# EAGLE library part ICL3221ECAZ (library Intersil_By_element14_Batch_1)
RS-232 Transmitters/Receivers
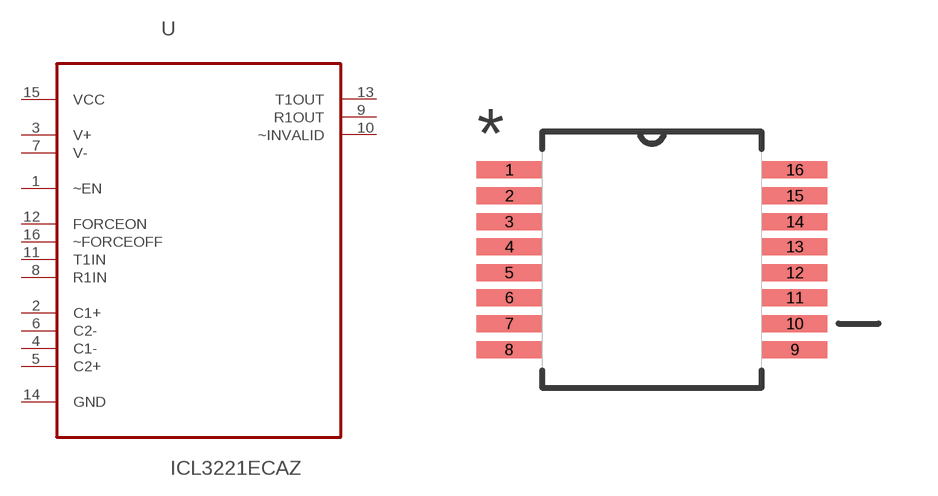
[diagram p161: symbol with the pads of SOP65P780X200-16N; footprint SOP65P780X200-16N]

Designator prefix U

## ICL3221ECAZ (MPN: ICL3221ECAZ; OC_FARNELL: 1561963; OC_NEWARK: 11J8845; PACKAGE: SSOP-16; SUPPLIER: INTERSIL)  [SOP65P780X200-16N]
1  ~EN  in
2  C1+  pas
3  V+  pwr
4  C1-  pas
5  C2+  pas
6  C2-  pas
7  V-  pwr
8  R1IN  in
9  R1OUT  out
10  ~INVALID  out
11  T1IN  in
12  FORCEON  in
13  T1OUT  out
14  GND  pas
15  VCC  pwr
16  ~FORCEOFF  pas

## Footprint SOP65P780X200-16N (pad centres in mm)
smd 1.651 x 0.432: 1 -3.632,2.286; 2 -3.632,1.626; 3 -3.632,0.965; 4 -3.632,0.33; 5 -3.632,-0.33; 6 -3.632,-0.965; 7 -3.632,-1.626; 8 -3.632,-2.286; 9 3.632,-2.286; 10 3.632,-1.626; 11 3.632,-0.965; 12 3.632,-0.33; 13 3.632,0.33; 14 3.632,0.965; 15 3.632,1.626; 16 3.632,2.286